# Altium footprint library Components - esd protect.PcbLib: 4 footprints
Each footprint in its own frame and in the unit in brackets; x right, y up, seen from the top. Pads: shape width x height; smd on the part's side, far side on the other; paste and mask are expansions set on the pad; w line width, h text height; cw(c..) or ccw(c..) is an arc to the next point about the centre after c.
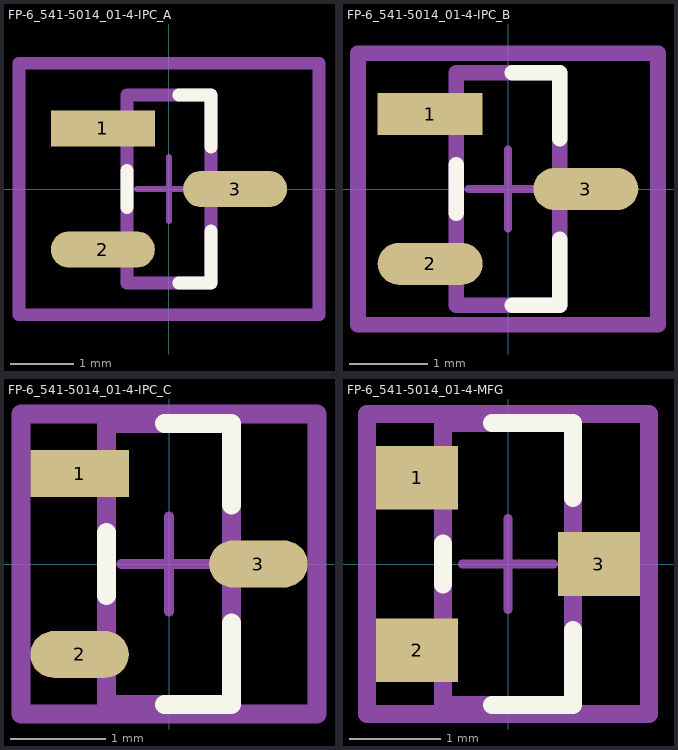
[diagram p0: the footprints below, top view; thin cyan lines are the x and y axes]

## FP-6_541-5014_01-4-IPC_A [mm]
pads (3):
  rect 1.633x0.572 smd paste+0 mask+0: 1(-1.038,0.95)
  rrect100% 1.633x0.572 smd paste+0 mask+0: 2(-1.038,-0.95) 3(1.038,0)
Top Overlay:
  lines w0.2: -0.657,-0.289 -0.657,0.289 ; 0.153,-1.475 0.657,-1.475 0.657,-0.661 ; 0.153,1.475 0.657,1.475 0.657,0.661
Top Assembly:
  lines w0.2: -2.355,-1.975 2.355,-1.975 2.355,1.975 -2.355,1.975 -2.355,-1.975
  text ".Designator" at 0,0 h1
Top 3D Body:
  lines w0.2: -0.657,-1.475 0.657,-1.475 0.657,1.475 -0.657,1.475 -0.657,-1.475
Top Courtyard:
  lines w0.2: -2.355,-1.975 2.355,-1.975 2.355,1.975 -2.355,1.975 -2.355,-1.975
Top Component Center:
  lines w0.1: -0.5,0 0.5,0 ; 0,-0.5 0,0.5
3D body "Diode_Vishay_GSOT15C-E3-08_eec.STEP": height 0.25, standoff 0, extent -2.355,-1.975 2.355,1.975

## FP-6_541-5014_01-4-IPC_B [mm]
pads (3):
  rect 1.333x0.532 smd paste+0 mask+0: 1(-0.988,0.95)
  rrect100% 1.333x0.532 smd paste+0 mask+0: 2(-0.988,-0.95) 3(0.988,0)
Top Overlay:
  lines w0.2: -0.657,-0.309 -0.657,0.309 ; 0.053,-1.475 0.657,-1.475 0.657,-0.641 ; 0.053,1.475 0.657,1.475 0.657,0.641
Top Assembly:
  lines w0.2: -1.905,-1.725 1.905,-1.725 1.905,1.725 -1.905,1.725 -1.905,-1.725
  text ".Designator" at 0,0 h1
Top 3D Body:
  lines w0.2: -0.657,-1.475 0.657,-1.475 0.657,1.475 -0.657,1.475 -0.657,-1.475
Top Courtyard:
  lines w0.2: -1.905,-1.725 1.905,-1.725 1.905,1.725 -1.905,1.725 -1.905,-1.725
Top Component Center:
  lines w0.1: -0.5,0 0.5,0 ; 0,-0.5 0,0.5
3D body "Diode_Vishay_GSOT15C-E3-08_eec.STEP": height 0.25, standoff 0, extent -1.905,-1.725 1.905,1.725

## FP-6_541-5014_01-4-IPC_C [mm]
pads (3):
  rect 1.033x0.492 smd paste+0 mask+0: 1(-0.938,0.95)
  rrect100% 1.033x0.492 smd paste+0 mask+0: 2(-0.938,-0.95) 3(0.938,0)
Top Overlay:
  lines w0.2: -0.657,-0.329 -0.657,0.329 ; -0.047,-1.475 0.657,-1.475 0.657,-0.621 ; -0.047,1.475 0.657,1.475 0.657,0.621
Top Assembly:
  lines w0.2: -1.555,-1.575 1.555,-1.575 1.555,1.575 -1.555,1.575 -1.555,-1.575
  text ".Designator" at 0,0 h1
Top 3D Body:
  lines w0.2: -0.657,-1.475 0.657,-1.475 0.657,1.475 -0.657,1.475 -0.657,-1.475
Top Courtyard:
  lines w0.2: -1.555,-1.575 1.555,-1.575 1.555,1.575 -1.555,1.575 -1.555,-1.575
Top Component Center:
  lines w0.1: -0.5,0 0.5,0 ; 0,-0.5 0,0.5
3D body "Diode_Vishay_GSOT15C-E3-08_eec.STEP": height 0.25, standoff 0, extent -1.555,-1.575 1.555,1.575

## FP-6_541-5014_01-4-MFG [mm]
pads (3):
  rect 0.9x0.7 smd paste+0 mask+0: 1(-1,0.95) 2(-1,-0.95) 3(1,0)
Top Overlay:
  lines w0.2: -0.715,-0.225 -0.715,0.225 ; -0.175,-1.55 0.715,-1.55 0.715,-0.725 ; -0.175,1.55 0.715,1.55 0.715,0.725
Top Assembly:
  lines w0.2: -1.55,-1.65 1.55,-1.65 1.55,1.65 -1.55,1.65 -1.55,-1.65
  text ".Designator" at 0,0 h1
Top 3D Body:
  lines w0.2: -0.715,-1.55 0.715,-1.55 0.715,1.55 -0.715,1.55 -0.715,-1.55
Top Courtyard:
  lines w0.2: -1.55,-1.65 1.55,-1.65 1.55,1.65 -1.55,1.65 -1.55,-1.65
Top Component Center:
  lines w0.1: -0.5,0 0.5,0 ; 0,-0.5 0,0.5
3D body "Diode_Vishay_GSOT15C-E3-08_eec.STEP": height 0.25, standoff 0, extent -1.55,-1.65 1.55,1.65